# Altium footprint library UWRT_Footprint_Library_2020.PcbLib: 80 footprints (part 2 of 5)
Each footprint in its own frame and in the unit in brackets; x right, y up, seen from the top. Pads: shape width x height; smd on the part's side, far side on the other; paste and mask are expansions set on the pad; w line width, h text height; cw(c..) or ccw(c..) is an arc to the next point about the centre after c.
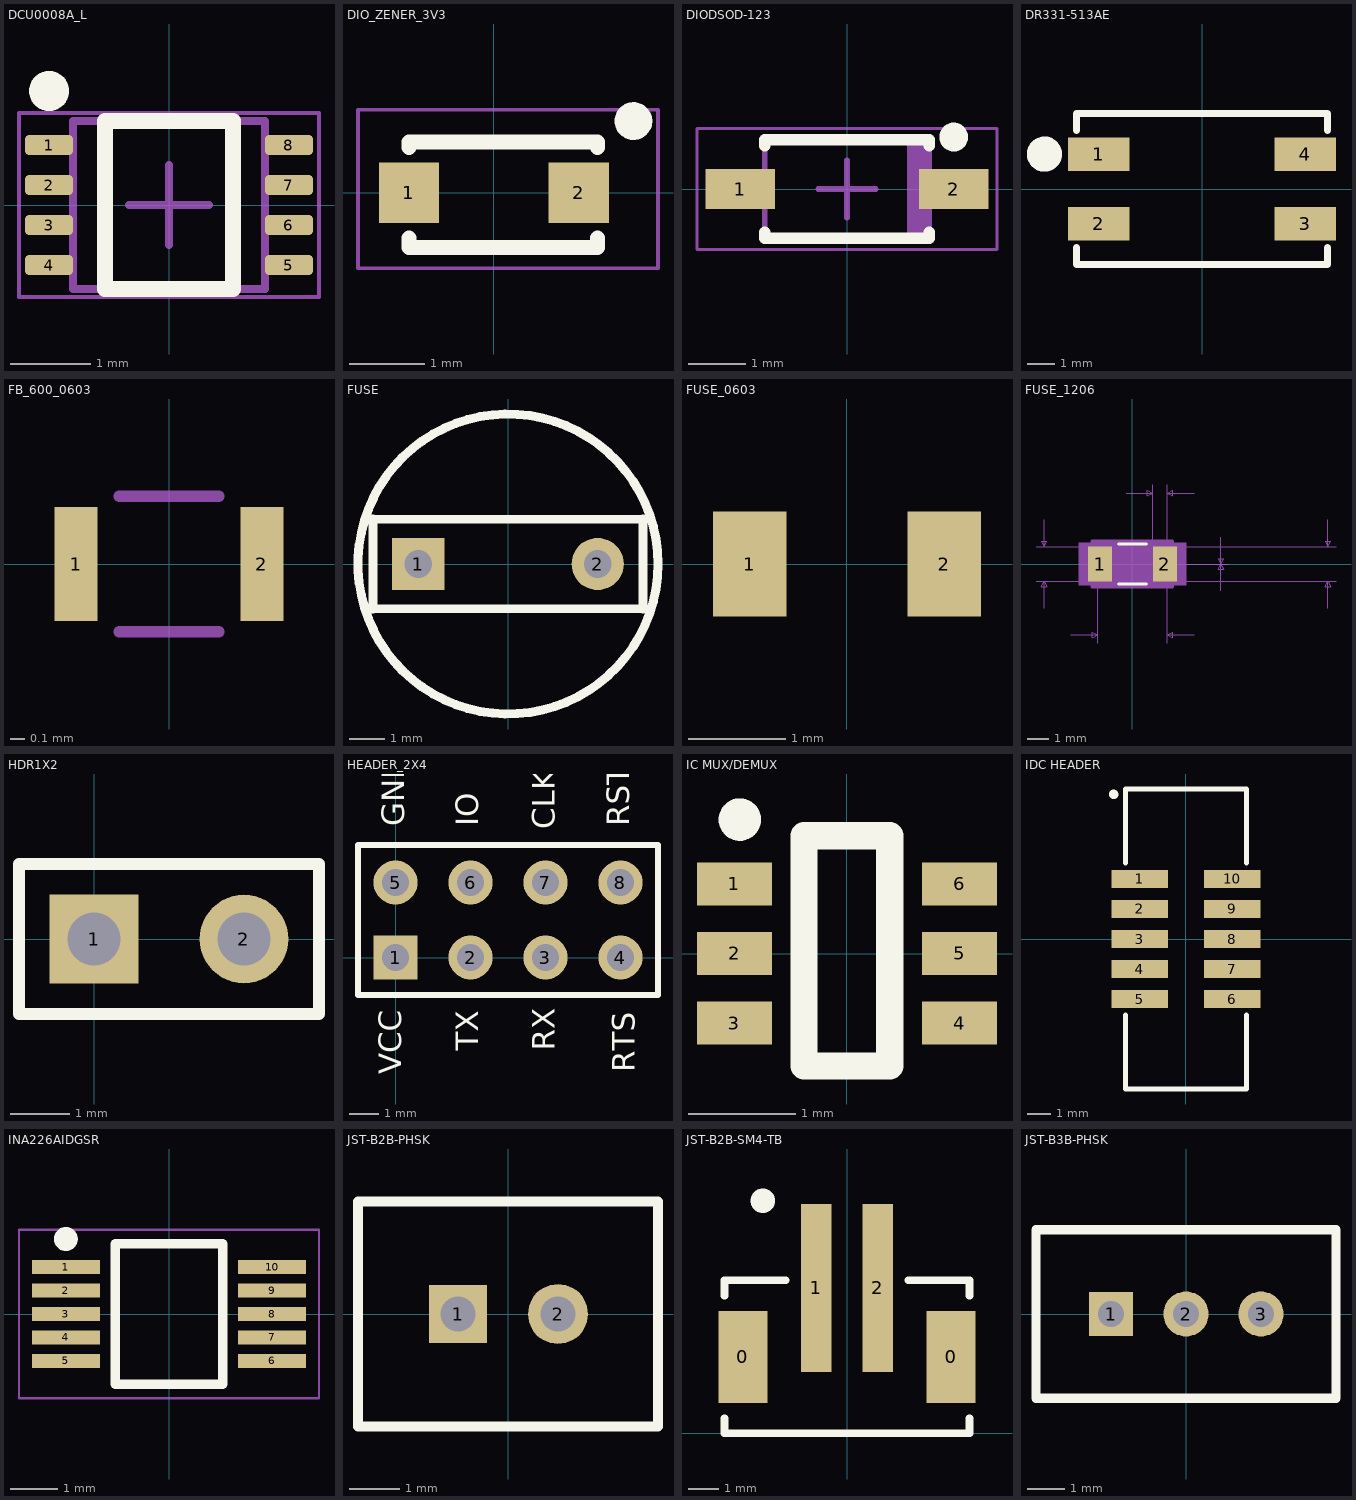
[diagram p1: the footprints below, top view; thin cyan lines are the x and y axes]

## DCU0008A_L [mm] "SOP, 8-Leads, Body 2.4x2.1mm, Pitch 0.5mm, IPC High Density"
height 0.9
pads (8):
  rrect40% 0.6x0.25 smd: 1(-1.5,0.75) 2(-1.5,0.25) 3(-1.5,-0.25) 4(-1.5,-0.75) 5(1.5,-0.75) 6(1.5,-0.25) 7(1.5,0.25) 8(1.5,0.75)
Top Overlay:
  circle w0.25: c-1.5,1.425 r0.125
  lines w0.2: -0.8,-1.05 -0.8,1.05 0.8,1.05 0.8,-1.05 -0.8,-1.05
Mechanical 1:
  text "SN74LVC2T45DCURG4" at -2.413,-1.524 h0.3
Mechanical 13:
  lines w0.1: -1.2,-1.05 -1.2,1.05 1.2,1.05 1.2,-1.05 -1.2,-1.05
Mechanical 15:
  lines w0.05: -1.875,-1.15 -1.875,1.15 1.875,1.15 1.875,-1.15 -1.875,-1.15
  lines w0.1: -0.5,0 0.5,0 ; 0,-0.5 0,0.5
3D body "DCU0008A.stp": height 0.9, standoff 0, extent -1.561,-1 1.561,1

## DIO_ZENER_3V3 [mm] "DIODE ZENER 3.3V 200MW SOD323F"
pads (2):
  rect 0.8x0.8 smd: 1(-1.125,0) 2(1.125,0)
Top Overlay:
  circle w0.25: c1.85,0.95 r0.125
  lines w0.2: -1.125,-0.6 -1.125,-0.725 1.375,-0.725 1.375,-0.6 ; -1.125,0.6 -1.125,0.675 1.375,0.675 1.375,0.6
Mechanical 15:
  lines w0.05: -1.8,-1 2.175,-1 2.175,1.1 -1.8,1.1 -1.8,-1
3D body "1N914BWS--3DModel-STEP-56544.STEP": height 0.91, standoff 0.01, extent -1.125,-0.625 1.375,0.625

## DIODSOD-123 [mm] "SOD-123, 2-Leads, Body 2.85x1.7mm (max), Pitch 3.7mm"
height 1.45
pads (2):
  rect 1.2x0.7 smd: 1(-1.85,0) 2(1.85,0)
Top Overlay:
  circle w0.25: c1.85,0.9 r0.125
  lines w0.2: -1.425,-0.75 -1.425,-0.85 1.425,-0.85 1.425,-0.75 ; -1.425,0.75 -1.425,0.85 1.425,0.85 1.425,0.75
Mechanical 13:
  rectangle: 1.042,-0.85 1.425,0.85
  lines w0.1: -1.425,-0.85 -1.425,0.85 1.425,0.85 1.425,-0.85 -1.425,-0.85
Mechanical 15:
  lines w0.05: -2.6,-1.05 -2.6,1.05 2.6,1.05 2.6,-1.05 -2.6,-1.05
  lines w0.1: -0.5,0 0.5,0 ; 0,-0.5 0,0.5
3D body: height 1.45, standoff 0, extent -1.425,-0.85 1.425,0.85

## DR331-513AE [mm] "CMC"
height 3.7
pads (4):
  rect 2.2x1.2 smd: 1(-3.7,1.25) 2(-3.7,-1.25) 3(3.7,-1.25) 4(3.7,1.25)
Top Overlay:
  circle w0.654: c-5.65,1.25 r0.304
  lines w0.254: -4.5,-2.1 -4.5,-2.7 4.5,-2.7 4.5,-2.1 ; -4.5,2.1 -4.5,2.7 4.5,2.7 4.5,2.1
3D body "dr331.stp": height 5.01, standoff 0.01, extent -4.5,-2.7 4.5,2.7

## FB_600_0603 [mm] "FERRITE BEAD 600 OHM 0603 1LN"
pads (2):
  rect 0.3x0.8 smd: 1(-0.65,0) 2(0.65,0)
Mechanical 5:
  lines w0.08: -0.35,-0.475 0.35,-0.475 ; -0.35,0.475 0.35,0.475
3D body "User Library-FB_1608.STEP": height 0.8, standoff 0, extent -0.8,-0.4 0.8,0.4

## FUSE [mm] "FUSE HOLDER RADIAL 250V 6.3A PCB"
pads (2):
  rect 1.48x1.48 / inner round 1.524 / far side round 1.2 hole 0.78: 1(-2.54,0)
  round 1.48 / inner round 1.524 / far side round 1.2 hole 0.78: 2(2.54,0)
Top Overlay:
  circle w0.254: c0,0 r4.25
  lines w0.25: -3.825,-1.28 -3.825,1.28 ; -3.809,-1.27 3.825,-1.27 ; -3.809,1.27 3.825,1.27 ; 3.825,-1.28 3.825,1.28

## FUSE_0603 [mm] "Chip Fuse, Body 1.6x0.81mm"
height 0.305
pads (2):
  rect 0.762x1.09 smd: 1(-1.005,0) 2(1.005,0)
3D body "User Library-ptc06032-1.STEP": height 0.75, standoff 0, extent -0.8,-0.375 0.8,0.375

## FUSE_1206 [mil]
pads (2):
  rect 45x65 smd mask+1: 1(-60.5,0) 2(60.5,0)
Top Overlay:
  lines w6: -25.89,-37.5 25.89,-37.5 ; -25.89,37.5 25.89,37.5
Mechanical 5:
  region: 100.5,-40 -100.5,-40 -100.5,40 100.5,40
Mechanical 7:
  lines w1: -180,-32.5 -65,-32.5 ; -180,32.5 -65,32.5 ; -165,-82.5 -165,-32.5 ; -165,82.5 -165,32.5 ; -115,-132.5 -65,-132.5 ; -65,-147.5 -65,0 ; -12,132.5 38,132.5 ; 38,0 38,147.5 ; 65,-147.5 65,0 ; 65,-32.5 380,-32.5 ; 65,32.5 380,32.5 ; 65,147.5 65,0 ; 115,-132.5 65,-132.5 ; 115,132.5 65,132.5 ; 165,-50 165,0 ; 165,50 165,0 ; 365,-82.5 365,-32.5 ; 365,82.5 365,32.5 ; -165,-32.5 -160,-42.5 -170,-42.5 -165,-32.5 ; -165,32.5 -160,42.5 -170,42.5 -165,32.5 ; -65,-132.5 -75,-137.5 -75,-127.5 -65,-132.5 ; 38,132.5 28,127.5 28,137.5 38,132.5 ; 65,-132.5 75,-137.5 75,-127.5 65,-132.5 ; 65,0 180,0 65,0 ; 65,132.5 75,127.5 75,137.5 65,132.5 ; 165,0 170,-10 160,-10 165,0 ; 165,0 170,10 160,10 165,0 ; 365,-32.5 370,-42.5 360,-42.5 365,-32.5 ; 365,32.5 370,42.5 360,42.5 365,32.5
  text "0.065in/1.651mm" at -372.5,20 h25
  text "0.065in/1.651mm" at 385,-12.5 h25
  text "0in/0mm" at 185,-12.5 h25
  text "0.027in/0.686mm" at -42.25,152.5 h25
  text "0.13in/3.302mm" at -87.5,-177.5 h25
  text "Alternate 2 Padstyle: OX90Y60D30P" at -412.5,-482.5 h50
  text "Alternate 1 Padstyle: OX60Y90D30P" at -412.5,-382.5 h50
  text "Default Padstyle: RX45Y65D0TSM2" at -387.5,-282.5 h50
Mechanical 13:
  lines w0: -65,-13.5 ccw(c-65,0) -65,13.5 ; 65,-13.5 cw(c65,0) 65,13.5
  lines w1: -65,-13.5 -65,-32.5 65,-32.5 65,-13.5 ; -65,13.5 -65,32.5 65,32.5 65,13.5 ; -65,22.5 -55,32.5
  text "*" at -52.5,-12.5 h50
Mechanical 15:
  region: -75,-2 -93,-2 -93,2 -75,2 -75,42.5 75,42.5 75,2 93,2 93,-2 75,-2 75,-42.5 -75,-42.5
  lines w6: -93,-2 -75,-2 -75,-42.5 75,-42.5 75,-2 93,-2 93,2 75,2 75,42.5 -75,42.5 -75,2 -93,2 -93,-2
3D body "Fuse Littelfuse 1206L150THWR.stp": height 31.98, standoff -0.5, extent -65.04,-34.17 65.04,30
3D body: height 10, standoff 0, extent 0,0 10,10

## HDR1X2 [mm] "Connector; Header; 2 Position"
pads (2):
  rect 1.5x1.5 hole 0.9: 1(0,0)
  round 1.5 hole 0.9: 2(2.54,0)
Top Overlay:
  lines w0.2: -1.27,-1.27 3.81,-1.27 3.81,1.27 -1.27,1.27 -1.27,-1.27
3D body "CircuitWorks-HDR1X2.step": height 6.35, standoff -5.84, extent -1.27,-1.27 3.81,1.27

## HEADER_2X4 [mm]
pads (8):
  rect 1.5x1.5 hole 0.9: 1(0,0)
  round 1.5 hole 0.9: 2(2.54,0) 3(5.08,0) 4(7.62,0) 5(0,2.54) 6(2.54,2.54) 7(5.08,2.54) 8(7.62,2.54)
Top Overlay:
  lines w0.2: -1.27,-1.27 -1.27,3.81 8.89,3.81 8.89,-1.27 -1.27,-1.27
  text "TX" at 2.8,-3.152 h0.76
  text "RX" at 5.4,-3.152 h0.76
  text "RTS" at 8.1,-3.879 h0.76
  text "IO" at 2.8,4.446 h0.76
  text "CLK" at 5.4,4.346 h0.76
  text "RST" at 7.92,4.446 h0.76
  text "VCC" at 0.2,-3.954 h0.76
  text "GND" at 0.3,4.446 h0.76
3D body "User Library-2_54mm Male Header (4x2).STEP": height 8.54, standoff -3, extent -1.36,-1.315 8.8,3.665

## IC MUX/DEMUX [mm]
pads (6):
  rect 0.7x0.4 smd: 1(-1.05,0.65) 2(-1.05,0) 3(-1.05,-0.65) 4(1.05,-0.65) 5(1.05,0) 6(1.05,0.65)
Top Overlay:
  circle w0.254: c-1,1.25 r0.071
  lines w0.254: -0.4,-1.05 0.4,-1.05 0.4,1.1 -0.4,1.1 -0.4,-1.05
3D body "74LVC1G3157GW,125.stp": height 1.11, standoff 0.01, extent -1.05,-1 1.05,1

## IDC HEADER [mm]
pads (10):
  rect 2.4x0.76 smd: 1(-1.95,2.54) 2(-1.95,1.27) 3(-1.95,0) 4(-1.95,-1.27) 5(-1.95,-2.54) 6(1.95,-2.54) 7(1.95,-1.27) 8(1.95,0) 9(1.95,1.27) 10(1.95,2.54)
Top Overlay:
  circle w0.254: c-3.05,6.1 r0.071
  lines w0.2: -2.55,-3.2 -2.55,-6.325 2.55,-6.325 2.55,-3.2 ; -2.55,3.2 -2.55,6.325 2.55,6.325 2.55,3.2

## INA226AIDGSR [mm]
pads (10):
  rect 1.45x0.3 smd: 1(-2.2,1) 2(-2.2,0.5) 3(-2.2,0) 4(-2.2,-0.5) 5(-2.2,-1) 6(2.2,-1) 7(2.2,-0.5) 8(2.2,0) 9(2.2,0.5) 10(2.2,1)
Top Overlay:
  circle w0.254: c-2.2,1.6 r0.127
  lines w0.2: -1.15,-1.5 1.15,-1.5 1.15,1.5 -1.15,1.5 -1.15,-1.5
Mechanical 15:
  lines w0.05: -3.2,-1.8 3.2,-1.8 3.2,1.8 -3.2,1.8 -3.2,-1.8
3D body "ADS1115IDGSR--3DModel-STEP-56544.STEP": height 1.06, standoff -0.04, extent -2.45,-1.5 2.45,1.5

## JST-B2B-PHSK [mm]
pads (2):
  rect 1.162x1.162 / inner rect 1.524x1.524 / far side rect 1.162x1.162 hole 0.7: 1(-1,0)
  round 1.2 / inner round 1.524 / far side round 1.2 hole 0.7: 2(1,0)
Top Overlay:
  lines w0.2: -3,-2.25 3,-2.25 3,2.25 -3,2.25 -3,-2.25
3D body "B2B-PH-K-S.STEP": height 6, standoff -3.4, extent -2.95,-2.825 2.95,1.675

## JST-B2B-SM4-TB [mm]
pads (4):
  rect 1.6x3 smd: 0(-3.4,2.5) 0(3.4,2.5)
  rect 1x5.5 smd: 1(-1,4.75) 2(1,4.75)
Top Overlay:
  circle w0.4: c-2.75,7.6 r0.2
  lines w0.25: -4,0.5 -4,0 4,0 4,0.5 ; -4,4.5 -4,5 -2,5 ; 2,5 4,5 4,4.5
3D body "B2B-PH-SM4-TB.STEP": height 6.6, standoff 0, extent -3.975,0 3.975,7

## JST-B3B-PHSK [mm]
pads (3):
  rect 1.162x1.162 / inner rect 1.524x1.524 / far side rect 1.162x1.162 hole 0.7: 1(-2,0)
  round 1.2 / inner round 1.524 / far side round 1.2 hole 0.7: 2(0,0) 3(2,0)
Top Overlay:
  lines w0.25: -4,-2.25 -4,2.25 4,2.25 4,-2.25 -4,-2.25